# Altium schematic symbol library ADS1115.SchLib: 1 symbol
Pins are listed as number, name and electrical type; pins without a type are passive.

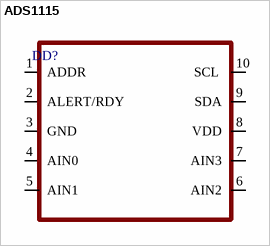
[diagram p0: symbol ADS1115]

## ADS1115
designator DD?
footprint 10VSSOP
pins: 1 ADDR, 2 ALERT/RDY, 3 GND , 4 AIN0, 5 AIN1, 6 AIN2, 7 AIN3, 8 VDD, 9 SDA, 10 SCL 